# Altium footprint library components.PcbLib: 7 footprints
Each footprint in its own frame and in the unit in brackets; x right, y up, seen from the top. Pads: shape width x height; smd on the part's side, far side on the other; paste and mask are expansions set on the pad; w line width, h text height; cw(c..) or ccw(c..) is an arc to the next point about the centre after c.
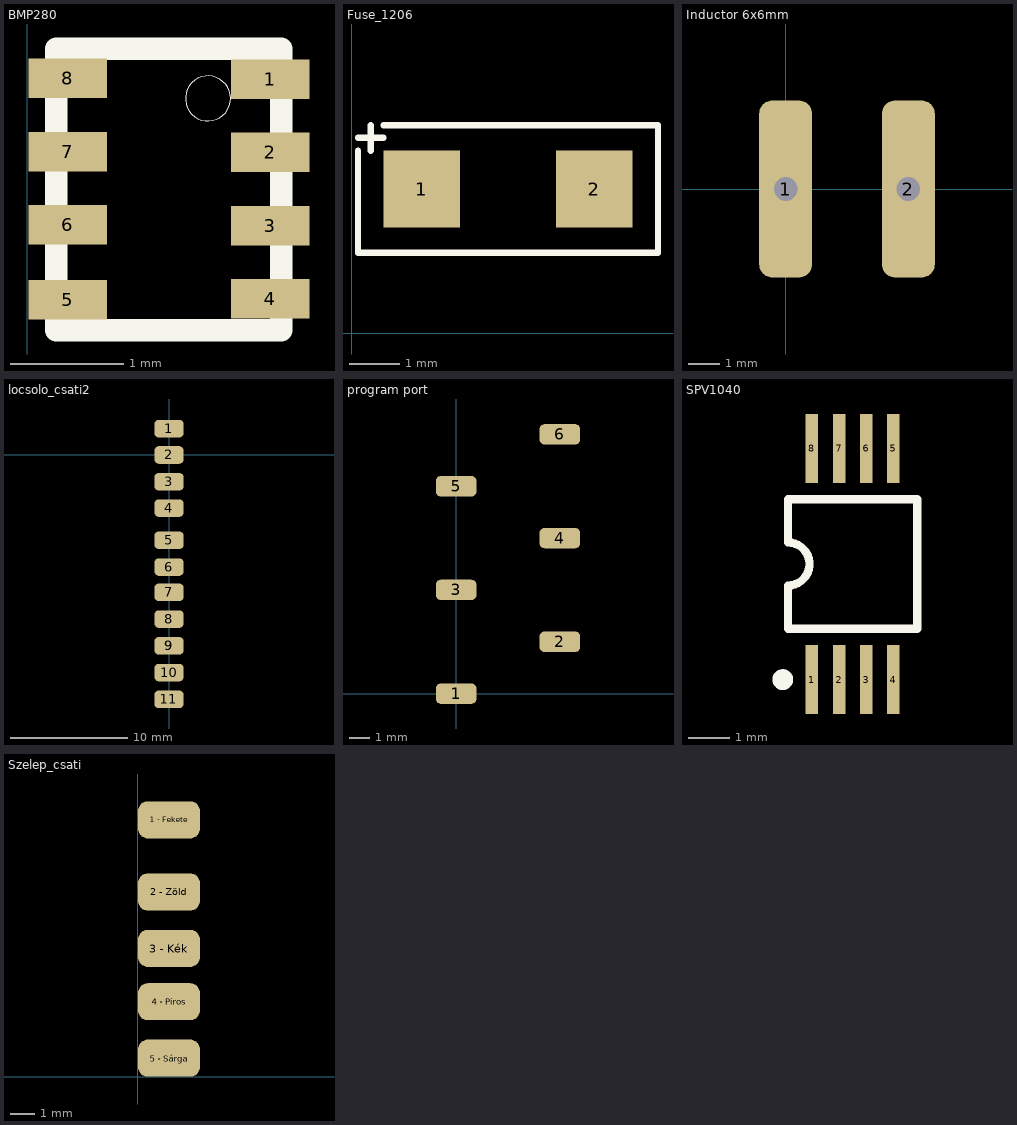
[diagram p0: the footprints below, top view; thin cyan lines are the x and y axes]

## BMP280 [mm]
height 0.95
pads (8):
  rect 0.7x0.35 smd: 1(2.156,2.458) 2(2.156,1.808) 3(2.156,1.158) 4(2.156,0.508) 5(0.358,0.501) 6(0.358,1.164) 7(0.358,1.814) 8(0.358,2.464)
Top Overlay:
  circle w0.01: c1.603,2.286 r0.2
  lines w0.2: 0.254,0.229 0.254,2.729 2.254,2.729 2.254,0.229 0.254,0.229

## Fuse_1206 [mil]
pads (2):
  rect 60x60 smd: 1(55,113) 2(190,113)
Top Overlay:
  lines w5: 5,143 5,63 240,63 240,163 25,163 ; 5,153 25,153 ; 15,143 15,163

## Inductor 6x6mm [mm]
pads (2):
  rrect50% 1.7x5.7 hole 0.762: 1(0,0) 2(3.95,0)

## locsolo_csati2 [mm]
pads (12):
  rrect50% 2.5x1.5 smd: 1(0,2.25) 2(0,0) 3(0,-2.286) 4(0,-4.536) 5(0,-7.286) 6(0,-9.572) 7(0,-11.731) 8(0,-14.017) 9(0,-16.303) 9(0,-16.303) 10(0,-18.589) 11(-0.002,-20.876)

## program port [mm]
pads (6):
  rrect50% 2x1 smd: 1(0,0) 2(5.08,2.54) 3(0,5.08) 4(5.08,7.62) 5(0,10.16) 6(5.08,12.7)

## SPV1040 [mm]
pads (8):
  rect 0.3x1.65 smd: 1(3.47,2.559) 2(4.12,2.559) 3(4.77,2.559) 4(5.42,2.559) 5(5.42,8.109) 6(4.77,8.109) 7(4.12,8.109) 8(3.47,8.109)
Top Overlay:
  circle w0.25: c2.77,2.559 r0.125
  lines w0.2: 2.895,3.784 5.995,3.784 5.995,6.884 2.895,6.884 2.895,5.851 cw(c2.895,5.334) 2.895,4.817 2.895,3.784

## Szelep_csati [mm]
pads (5):
  rrect50% 2.5x1.5 smd: "1 - Fekete"(1.27,10.414) "2 - Zöld"(1.27,7.493) "3 - Kék"(1.27,5.207) "4 - Piros"(1.27,3.048) "5 - Sárga"(1.27,0.762)